# EAGLE library part SFP_UNI (library sfp)
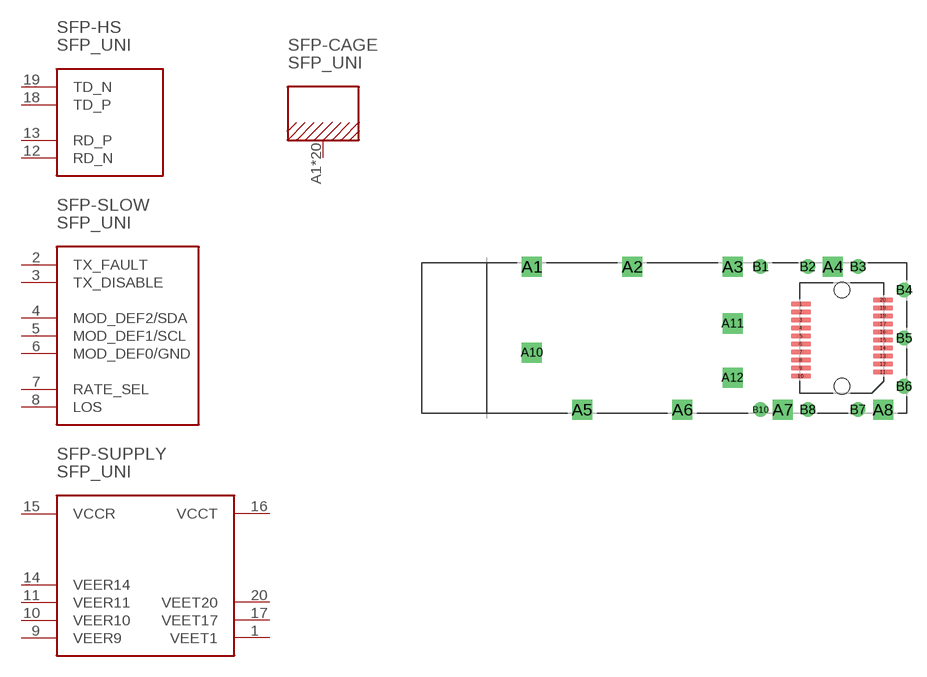
[diagram p1: symbol with the pads of SFP_COMBINED; footprint SFP_COMBINED]

Designator prefix SFP; gates -HS=SFP_HS -SLOW=SFP_SLOW -SUPPLY=SFP_SUPPLY -CAGE=SFP_CAGE

## SFP_UNI  [SFP_COMBINED]
1  -SUPPLY:VEET1  pwr
2  -SLOW:TX_FAULT  out
3  -SLOW:TX_DISABLE  in
4  -SLOW:MOD_DEF2/SDA
5  -SLOW:MOD_DEF1/SCL
6  -SLOW:MOD_DEF0/GND  pas
7  -SLOW:RATE_SEL  in
8  -SLOW:LOS  out
9  -SUPPLY:VEER9  pwr
10  -SUPPLY:VEER10  pwr
11  -SUPPLY:VEER11  pwr
12  -HS:RD_N  out
13  -HS:RD_P  out
14  -SUPPLY:VEER14  pwr
15  -SUPPLY:VCCR  pwr
16  -SUPPLY:VCCT  pwr
17  -SUPPLY:VEET17  pwr
18  -HS:TD_P  in
19  -HS:TD_N  in
20  -SUPPLY:VEET20  pwr
A1  -CAGE:CAGE  pwr
A2  -CAGE:CAGE  pwr
A3  -CAGE:CAGE  pwr
A4  -CAGE:CAGE  pwr
A5  -CAGE:CAGE  pwr
A6  -CAGE:CAGE  pwr
A7  -CAGE:CAGE  pwr
A8  -CAGE:CAGE  pwr
A10  -CAGE:CAGE  pwr
A11  -CAGE:CAGE  pwr
A12  -CAGE:CAGE  pwr
B1  -CAGE:CAGE  pwr
B2  -CAGE:CAGE  pwr
B3  -CAGE:CAGE  pwr
B4  -CAGE:CAGE  pwr
B5  -CAGE:CAGE  pwr
B6  -CAGE:CAGE  pwr
B7  -CAGE:CAGE  pwr
B8  -CAGE:CAGE  pwr
B10  -CAGE:CAGE  pwr

## Footprint SFP_COMBINED (pad centres in mm)
SFP cage + receptacle Based on Amphenol U77-A1114-100T( Datasheet link <http://www.amphenolinfocom.eu/NavData/Drawings/U77-A111X-XX0X- REVF.pdf> )
smd 2 x 0.5: 1 -3.2,3.4; 2 -3.2,2.6; 3 -3.2,1.8; 4 -3.2,1; 5 -3.2,0.2; 6 -3.2,-0.6; 7 -3.2,-1.4; 8 -3.2,-2.2; 9 -3.2,-3; 10 -3.2,-3.8; 11 5,-3.4; 12 5,-2.6; 13 5,-1.8; 14 5,-1; 15 5,-0.2; 16 5,0.6; 17 5,1.4; 18 5,2.2; 19 5,3; 20 5,3.8
drill 1.05 pad 2 square: A1 -30,7.125; A2 -20,7.125; A3 -10,7.125; A5 -25,-7.125; A6 -15,-7.125; A7 -5,-7.125; A8 5,-7.125; A10 -30,-1.45; A11 -10,1.45; A12 -10,-3.95
drill 0.95 pad 2 square: A4 0,7.125
drill 0.95: B1 -7.2,7.125; B2 -2.5,7.125; B3 2.5,7.125; B7 2.5,-7.125; B8 -2.5,-7.125; B10 -7.2,-7.125
drill 0.95 pad 1.27: B4 7.1,4.8; B5 7.1,0; B6 7.1,-4.8
hole 1.55 at 0.9,4.8
hole 1.55 at 0.9,-4.8